# Altium footprint library PCB - CONNECTOR - TE BNC right angle.PCBLIB: 1 footprints
Each footprint in its own frame and in the unit in brackets; x right, y up, seen from the top. Pads: shape width x height; smd on the part's side, far side on the other; paste and mask are expansions set on the pad; w line width, h text height; cw(c..) or ccw(c..) is an arc to the next point about the centre after c.
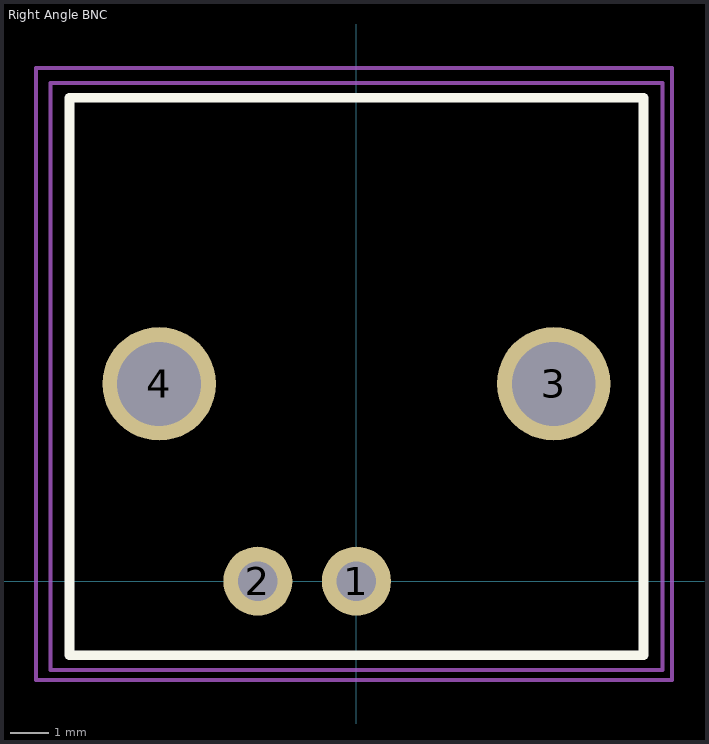
[diagram p0: the footprint, top view; thin cyan lines are the x and y axes]

## Right Angle BNC [mil]
pads (4):
  round 70 hole 40: 1(0,0) 2(-100,0)
  round 115 hole 85: 3(200,200) 4(-200,200)
Top Overlay:
  lines w10: -291,-75 291,-75 291,490 -291,490 -291,-75
Top Assembly:
  lines w3.94: -310,-90 310,-90 310,505 -310,505 -310,-90
Top Courtyard:
  lines w3.94: -325,-100 320,-100 320,520 -325,520 -325,500 -325,-100
Top Designator:
  text ".Designator" at -160,-150 h39.37
Top Value (Mech13):
  text ".Comment" at -160,-220 h39.37
3D body "User Library-BNC-144.STEP": height 519.2, standoff -161.8, extent -290.5,-50 290.5,1325